# Altium schematic symbol library SMD Resistors 2012.SchLib: 78 symbols
Pins are listed as number, name and electrical type; pins without a type are passive.

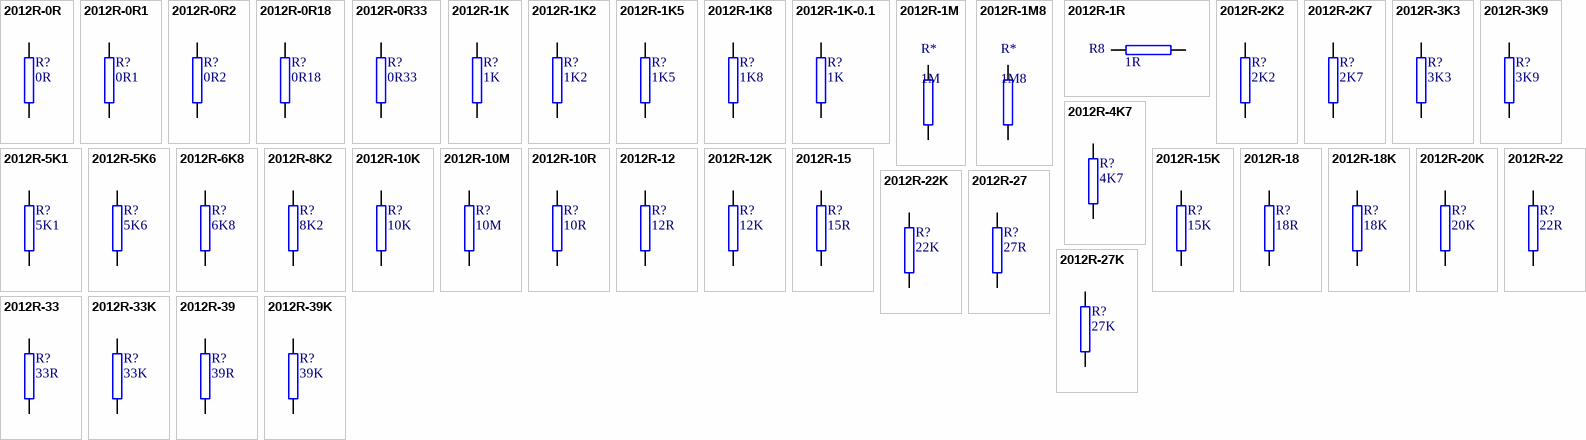
[diagram p0: symbols 2012R-0R to 2012R-39K]

## 2012R-0R
designator R?, comment 0R
RESISTOR 2012 1 WATT
footprint 2012R-0R (RESISTOR 2012)
pins: 1, 2

## 2012R-0R1
designator R?, comment 0R1
RESISTOR 2012 1 WATT; Manufacturer Part Number: RL1220S-R10-F; Manufacturer: Susumu; Reel: *; Supplier 1: Digi-Key; Supplier Part Number 1: RL12S.10FTR-ND
footprint 2012R-0R1 (RESISTOR 2012)
pins: 1, 2

## 2012R-0R2
designator R?, comment 0R2
RESISTOR 2012 1 WATT; Reel: *; Supplier 1: Digi-Key; Supplier Part Number 1: 311-.20STR-ND
footprint 2012R-GENERIC (RESISTOR 0805)
pins: 1, 2

## 2012R-0R18
designator R?, comment 0R18
Current Sense Resistor, 2012, 1/4 WATT; Manufacturer Part Number: RL1220S-R10-F; Manufacturer: Susumu; Reel: *; Supplier 1: Digi-Key; Supplier Part Number 1: RL12S.10FTR-ND
footprint 2012R-0R18 (RESISTOR 2012)
pins: 1, 2

## 2012R-0R33
designator R?, comment 0R33
RESISTOR 2012 1 WATT; Reel: *; Supplier 1: Digi-Key; Supplier Part Number 1: 311-.33STR-ND
footprint 2012R-GENERIC (RESISTOR 0805)
pins: 1, 2

## 2012R-1K
designator R?, comment 1K
RESISTOR 2012 1/4 WATT THIN FILM; Reel: *
footprint 2012R-1K (RESISTOR 0805)
pins: 1, 2

## 2012R-1K2
designator R?, comment 1K2
RESISTOR 2012 1/4 WATT THIN FILM; Reel: *
footprint 2012R-1K2 (RESISTOR 0805)
pins: 1, 2

## 2012R-1K5
designator R?, comment 1K5
RESISTOR 2012 1/4 WATT THIN FILM; Reel: *
footprint 2012R-1K5 (RESISTOR 0805)
pins: 1, 2

## 2012R-1K8
designator R?, comment 1K8
RESISTOR 2012 1/4 WATT THIN FILM; Reel: *
footprint 2012R-1K8 (RESISTOR 0805)
pins: 1, 2

## 2012R-1K-0.1
designator R?, comment 1K
RESISTOR 2012 1/4 WATT THIN FILM 0.1%; Reel: *
footprint 2012R-1K (RESISTOR 0805)
pins: 1, 2

## 2012R-1M
designator R*, comment 1M
RESISTOR 2012 1/4 WATT THIN FILM
footprint 2012R-1M (RESISTOR 0805  1M)
pins: 1, 2

## 2012R-1M8
designator R*, comment 1M8
RESISTOR 2012 1/4 WATT THIN FILM
footprint 2012R-1M8 (RESISTOR 0805)
pins: 1, 2

## 2012R-1R
designator R8, comment 1R
RESISTOR 2012 1/3 WATT; REEL: R84; Supplier 1: Digi-Key; Supplier Part Number 1: 541-1.0TADKR-ND
footprint 2012R-GENERIC (RESISTOR 0805)
pins: 1, 2

## 2012R-2K2
designator R?, comment 2K2
RESISTOR 2012 1/4 WATT THIN FILM; Reel: *
footprint 2012R-2K2 (RESISTOR 0805)
pins: 1, 2

## 2012R-2K7
designator R?, comment 2K7
RESISTOR 2012 1/4 WATT THIN FILM; Reel: *
footprint 2012R-2K7 (RESISTOR 0805)
pins: 1, 2

## 2012R-3K3
designator R?, comment 3K3
RESISTOR 2012 1/4 WATT THIN FILM; Reel: *
footprint 2012R-3K3 (RESISTOR 0805)
pins: 1, 2

## 2012R-3K9
designator R?, comment 3K9
RESISTOR 2012 1/4 WATT THIN FILM; Reel: *
footprint 2012R-3K9 (RESISTOR 0805)
pins: 1, 2

## 2012R-4K7
designator R?, comment 4K7
RESISTOR 2012 1/4 WATT THIN FILM; Reel: *
footprint 2012R-4K7 (RESISTOR 0805)
pins: 1, 2

## 2012R-5K1
designator R?, comment 5K1
RESISTOR 2012 1/4 WATT THIN FILM; Reel: *
footprint 2012R-5K1 (RESISTOR 0805)
pins: 1, 2

## 2012R-5K6
designator R?, comment 5K6
RESISTOR 2012 1/4 WATT THIN FILM; Reel: *
footprint 2012R-5K6 (RESISTOR 0805)
pins: 1, 2

## 2012R-6K8
designator R?, comment 6K8
RESISTOR 2012 1/4 WATT THIN FILM; Reel: *
footprint 2012R-6K8 (RESISTOR 0805)
pins: 1, 2

## 2012R-8K2
designator R?, comment 8K2
RESISTOR 2012 1/4 WATT THIN FILM; Reel: *
footprint 2012R-8K2 (RESISTOR 0805)
pins: 1, 2

## 2012R-10K
designator R?, comment 10K
RESISTOR 2012 1/4 WATT THIN FILM; Reel: *
footprint 2012R-10K (RESISTOR 0805)
pins: 1, 2

## 2012R-10M
designator R?, comment 10M
RESISTOR 2012 1/4 WATT THIN FILM; Supplier 1: Digi-Key; Supplier Part Number 1: HVCB0805FKL10M0-ND
footprint 2012R-TBD (RESISTOR 0805 VALUE TO BE DETERMINED)
pins: 1, 2

## 2012R-10R
designator R?, comment 10R
RESISTOR 2012 1/4 WATT THIN FILM; Reel: *
footprint 2012R-10 (RESISTOR 0805)
pins: 1, 2

## 2012R-12
designator R?, comment 12R
RESISTOR 2012 1/4 WATT THIN FILM; Reel: *
footprint 2012R-12 (RESISTOR 0805)
pins: 1, 2

## 2012R-12K
designator R?, comment 12K
RESISTOR 2012 1/4 WATT THIN FILM; Reel: *
footprint 2012R-12K (RESISTOR 0805)
pins: 1, 2

## 2012R-15
designator R?, comment 15R
RESISTOR 2012 1/4 WATT THIN FILM; Reel: *
footprint 2012R-15 (RESISTOR 0805)
pins: 1, 2

## 2012R-15K
designator R?, comment 15K
RESISTOR 2012 1/4 WATT THIN FILM; Reel: *
footprint 2012R-15K (RESISTOR 0805)
pins: 1, 2

## 2012R-18
designator R?, comment 18R
RESISTOR 2012 1/4 WATT THIN FILM; Reel: *
footprint 2012R-18 (RESISTOR 0805)
pins: 1, 2

## 2012R-18K
designator R?, comment 18K
RESISTOR 2012 1/4 WATT THIN FILM; Reel: *
footprint 2012R-18K (RESISTOR 0805)
pins: 1, 2

## 2012R-20K
designator R?, comment 20K
RESISTOR 2012 1/4 WATT THIN FILM; Reel: *
footprint 2012R-TBD (RESISTOR 0805 VALUE TO BE DETERMINED)
pins: 1, 2

## 2012R-22
designator R?, comment 22R
RESISTOR 2012 1/4 WATT THIN FILM; Reel: *
footprint 2012R-22 (RESISTOR 0805)
pins: 1, 2

## 2012R-22K
designator R?, comment 22K
RESISTOR 2012 1/4 WATT THIN FILM; Reel: *
footprint 2012R-22K (RESISTOR 0805)
pins: 1, 2

## 2012R-27
designator R?, comment 27R
RESISTOR 2012 1/4 WATT THIN FILM; Reel: *
footprint 2012R-27 (RESISTOR 0805)
pins: 1, 2

## 2012R-27K
designator R?, comment 27K
RESISTOR 2012 1/4 WATT THIN FILM; Reel: *
footprint 2012R-27K (RESISTOR 0805)
pins: 1, 2

## 2012R-33
designator R?, comment 33R
RESISTOR 2012 1/4 WATT THIN FILM; Reel: *
footprint 2012R-33 (RESISTOR 0805)
pins: 1, 2

## 2012R-33K
designator R?, comment 33K
RESISTOR 2012 1/4 WATT THIN FILM; Reel: *
footprint 2012R-33K (RESISTOR 0805)
pins: 1, 2

## 2012R-39
designator R?, comment 39R
RESISTOR 2012 1/4 WATT THIN FILM; Reel: *
footprint 2012R-39 (RESISTOR 0805)
pins: 1, 2

## 2012R-39K
designator R?, comment 39K
RESISTOR 2012 1/4 WATT THIN FILM; Reel: R85; Supplier 1: Digi-Key; Supplier Part Number 1: P39.0KHTR-ND
footprint 2012R-39K (RESISTOR 0805)
pins: 1, 2

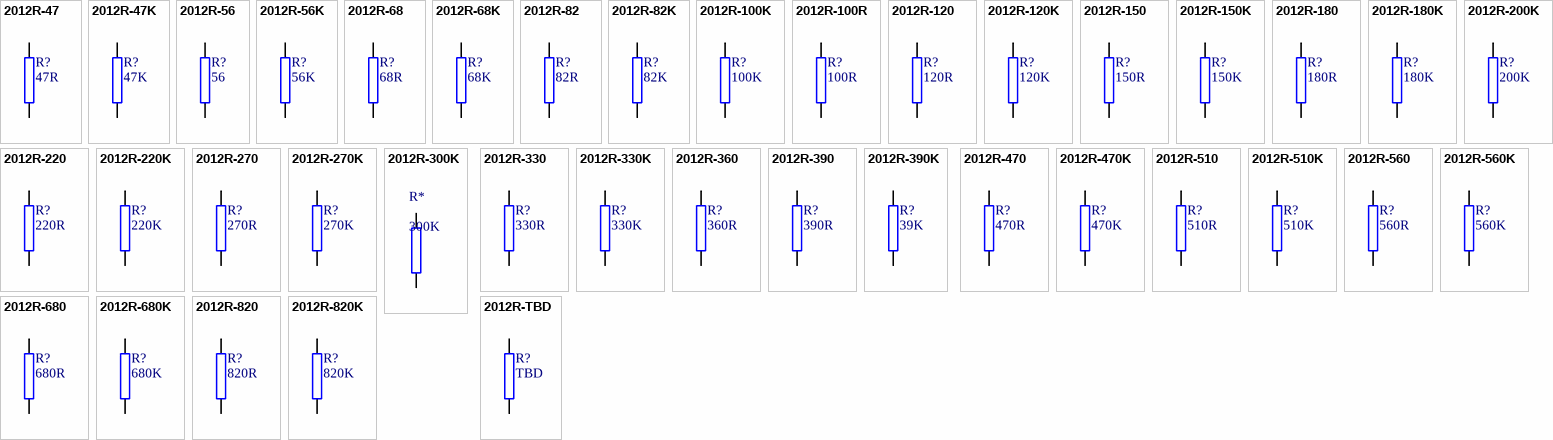
[diagram p1: symbols 2012R-47 to 2012R-TBD]

## 2012R-47
designator R?, comment 47R
RESISTOR 2012 1/4 WATT THIN FILM; Reel: *
footprint 2012R-47 (RESISTOR 0805)
pins: 1, 2

## 2012R-47K
designator R?, comment 47K
RESISTOR 2012 1/4 WATT THIN FILM
footprint 2012R-47K (RESISTOR 0805)
pins: 1, 2

## 2012R-56
designator R?, comment 56
RESISTOR 2012 1/4 WATT THIN FILM; Reel: *
footprint 2012R-56 (RESISTOR 0805)
pins: 1, 2

## 2012R-56K
designator R?, comment 56K
RESISTOR 2012 1/4 WATT THIN FILM; Reel: *
footprint 2012R-56K (RESISTOR 0805)
pins: 1, 2

## 2012R-68
designator R?, comment 68R
RESISTOR 2012 1/4 WATT THIN FILM; Reel: *
footprint 2012R-68 (RESISTOR 0805)
pins: 1, 2

## 2012R-68K
designator R?, comment 68K
RESISTOR 2012 1/4 WATT THIN FILM; Reel: *
footprint 2012R-68K (RESISTOR 0805)
pins: 1, 2

## 2012R-82
designator R?, comment 82R
RESISTOR 2012 1/4 WATT THIN FILM; Reel: *
footprint 2012R-82 (RESISTOR 0805)
pins: 1, 2

## 2012R-82K
designator R?, comment 82K
RESISTOR 2012 1/4 WATT THIN FILM; Reel: *
footprint 2012R-82K (RESISTOR 0805)
pins: 1, 2

## 2012R-100K
designator R?, comment 100K
RESISTOR 2012 1/4 WATT THIN FILM; Reel: *; Supplier 1: Digi-Key; Supplier Part Number 1: RMCF0805FT100KTR-ND
footprint 2012R-100K (RESISTOR 0805)
pins: 1, 2

## 2012R-100R
designator R?, comment 100R
RESISTOR 2012 1/4 WATT THIN FILM; Reel: *
footprint 2012R-100 (RESISTOR 0805)
pins: 1, 2

## 2012R-120
designator R?, comment 120R
RESISTOR 2012 1/4 WATT THIN FILM; Reel: *
footprint 2012R-120 (RESISTOR 0805)
pins: 1, 2

## 2012R-120K
designator R?, comment 120K
RESISTOR 2012 1/4 WATT THIN FILM; Reel: *
footprint 2012R-120K (RESISTOR 0805)
pins: 1, 2

## 2012R-150
designator R?, comment 150R
RESISTOR 2012 1/4 WATT THIN FILM; Reel: *
footprint 2012R-150 (RESISTOR 0805)
pins: 1, 2

## 2012R-150K
designator R?, comment 150K
RESISTOR 2012 1/4 WATT THIN FILM; Reel: *
footprint 2012R-150K (RESISTOR 0805)
pins: 1, 2

## 2012R-180
designator R?, comment 180R
RESISTOR 2012 1/4 WATT THIN FILM; Reel: *
footprint 2012R-180 (RESISTOR 0805)
pins: 1, 2

## 2012R-180K
designator R?, comment 180K
RESISTOR 2012 1/4 WATT THIN FILM; Reel: *
footprint 2012R-180K (RESISTOR 0805)
pins: 1, 2

## 2012R-200K
designator R?, comment 200K
RESISTOR 2012 1/4 WATT THIN FILM; Reel: *
footprint 2012R-200K (RESISTOR 2012)
pins: 1, 2

## 2012R-220
designator R?, comment 220R
RESISTOR 2012 1/4 WATT THIN FILM; Reel: *
footprint 2012R-220 (RESISTOR 0805)
pins: 1, 2

## 2012R-220K
designator R?, comment 220K
RESISTOR 2012 1/4 WATT THIN FILM; Reel: *
footprint 2012R-220K (RESISTOR 0805)
pins: 1, 2

## 2012R-270
designator R?, comment 270R
RESISTOR 2012 1/4 WATT THIN FILM; Reel: *
footprint 2012R-270 (RESISTOR 0805)
pins: 1, 2

## 2012R-270K
designator R?, comment 270K
RESISTOR 2012 1/4 WATT THIN FILM; Reel: *
footprint 2012R-270K (RESISTOR 0805)
pins: 1, 2

## 2012R-300K
designator R*, comment 300K
RESISTOR 2012 1/4 WATT THIN FILM
footprint 2012R-300K
pins: 1, 2

## 2012R-330
designator R?, comment 330R
RESISTOR 2012 1/4 WATT THIN FILM; Reel: *
footprint 2012R-330 (RESISTOR 0805)
pins: 1, 2

## 2012R-330K
designator R?, comment 330K
RESISTOR 2012 1/4 WATT THIN FILM; Reel: *
footprint 2012R-330K (RESISTOR 0805)
pins: 1, 2

## 2012R-360
designator R?, comment 360R
RESISTOR 2012 1/4 WATT THIN FILM; Reel: *
footprint 2012R-360 (RESISTOR 0805)
pins: 1, 2

## 2012R-390
designator R?, comment 390R
RESISTOR 2012 1/4 WATT THIN FILM; Reel: *
footprint 2012R-390 (RESISTOR 0805)
pins: 1, 2

## 2012R-390K
designator R?, comment 39K
RESISTOR 2012 1/4 WATT THIN FILM; Reel: *
footprint 2012R-390K (RESISTOR 0805)
pins: 1, 2

## 2012R-470
designator R?, comment 470R
RESISTOR 2012 1/4 WATT THIN FILM; Reel: *
footprint 2012R-470 (RESISTOR 0805)
pins: 1, 2

## 2012R-470K
designator R?, comment 470K
RESISTOR 2012 1/4 WATT THIN FILM; Reel: *
footprint 2012R-470K (RESISTOR 0805)
pins: 1, 2

## 2012R-510
designator R?, comment 510R
RESISTOR 2012 1/4 WATT THIN FILM; Reel: *
footprint 2012R-510 (RESISTOR 2012)
pins: 1, 2

## 2012R-510K
designator R?, comment 510K
RESISTOR 2012 1/4 WATT THIN FILM; Reel: *
footprint 2012R-510K (RESISTOR 2012)
pins: 1, 2

## 2012R-560
designator R?, comment 560R
RESISTOR 2012 1/4 WATT THIN FILM; Reel: *
footprint 2012R-560 (RESISTOR 0805)
pins: 1, 2

## 2012R-560K
designator R?, comment 560K
RESISTOR 2012 1/4 WATT THIN FILM; Reel: *
footprint 2012R-560K (RESISTOR 0805)
pins: 1, 2

## 2012R-680
designator R?, comment 680R
RESISTOR 2012 1/4 WATT THIN FILM; Reel: *
footprint 2012R-680 (RESISTOR 0805)
pins: 1, 2

## 2012R-680K
designator R?, comment 680K
RESISTOR 2012 1/4 WATT THIN FILM; Reel: *
footprint 2012R-680K (RESISTOR 0805)
pins: 1, 2

## 2012R-820
designator R?, comment 820R
RESISTOR 2012 1/4 WATT THIN FILM; Reel: *
footprint 2012R-820 (RESISTOR 0805)
pins: 1, 2

## 2012R-820K
designator R?, comment 820K
RESISTOR 2012 1/4 WATT THIN FILM; Reel: *
footprint 2012R-820K (RESISTOR 0805)
pins: 1, 2

## 2012R-TBD
designator R?, comment TBD
RESISTOR 2012 VALUE TO BE DETERMINED
footprint 2012R-TBD (RESISTOR 0805 VALUE TO BE DETERMINED)
pins: 1, 2